# EAGLE library part Z80CPU (library zilog)
Z80 FAMILY DEVICE
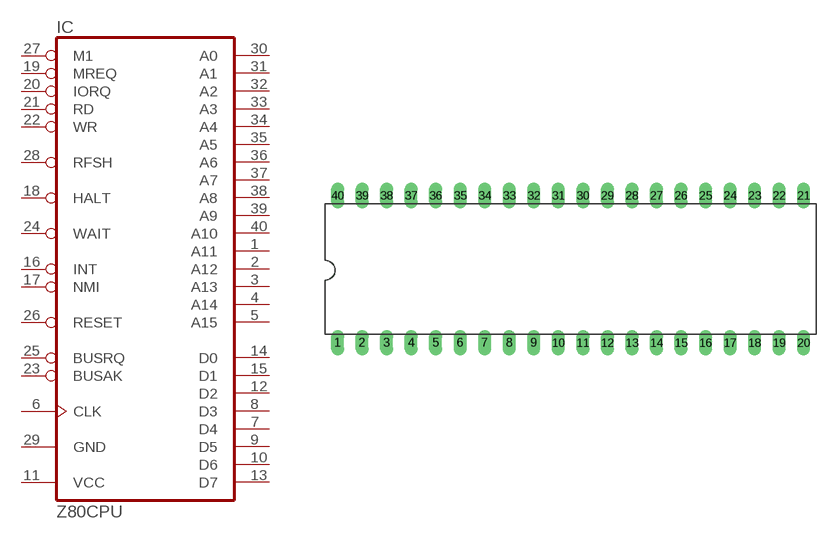
[diagram p3: symbol with the pads of DIL40; footprint DIL40]

Designator prefix IC

## Z80CPU  [DIL40]
1  A11  out
2  A12  out
3  A13  out
4  A14  out
5  A15  out
6  CLK  in
7  D4
8  D3
9  D5
10  D6
11  VCC  pwr
12  D2
13  D7
14  D0
15  D1
16  INT  in
17  NMI  in
18  HALT  out
19  MREQ  out
20  IORQ  out
21  RD  out
22  WR  out
23  BUSAK  out
24  WAIT  in
25  BUSRQ  in
26  RESET  in
27  M1  out
28  RFSH  out
29  GND  pwr
30  A0  out
31  A1  out
32  A2  out
33  A3  out
34  A4  out
35  A5  out
36  A6  out
37  A7  out
38  A8  out
39  A9  out
40  A10  out

## Footprint DIL40 (pad centres in mm)
Dual In Line Package
drill 0.813 long: 1 -24.13,-7.62; 2 -21.59,-7.62; 3 -19.05,-7.62; 4 -16.51,-7.62; 5 -13.97,-7.62; 6 -11.43,-7.62; 7 -8.89,-7.62; 8 -6.35,-7.62; 9 -3.81,-7.62; 10 -1.27,-7.62; 11 1.27,-7.62; 12 3.81,-7.62; 13 6.35,-7.62; 14 8.89,-7.62; 15 11.43,-7.62; 16 13.97,-7.62; 17 16.51,-7.62; 18 19.05,-7.62; 19 21.59,-7.62; 20 24.13,-7.62; 21 24.13,7.62; 22 21.59,7.62; 23 19.05,7.62; 24 16.51,7.62; 25 13.97,7.62; 26 11.43,7.62; 27 8.89,7.62; 28 6.35,7.62; 29 3.81,7.62; 30 1.27,7.62; 31 -1.27,7.62; 32 -3.81,7.62; 33 -6.35,7.62; 34 -8.89,7.62; 35 -11.43,7.62; 36 -13.97,7.62; 37 -16.51,7.62; 38 -19.05,7.62; 39 -21.59,7.62; 40 -24.13,7.62